# Altium integrated library TI Amplifiers and Linear Special Function Amplifier.IntLib: 708 symbols (part 9 of 47)
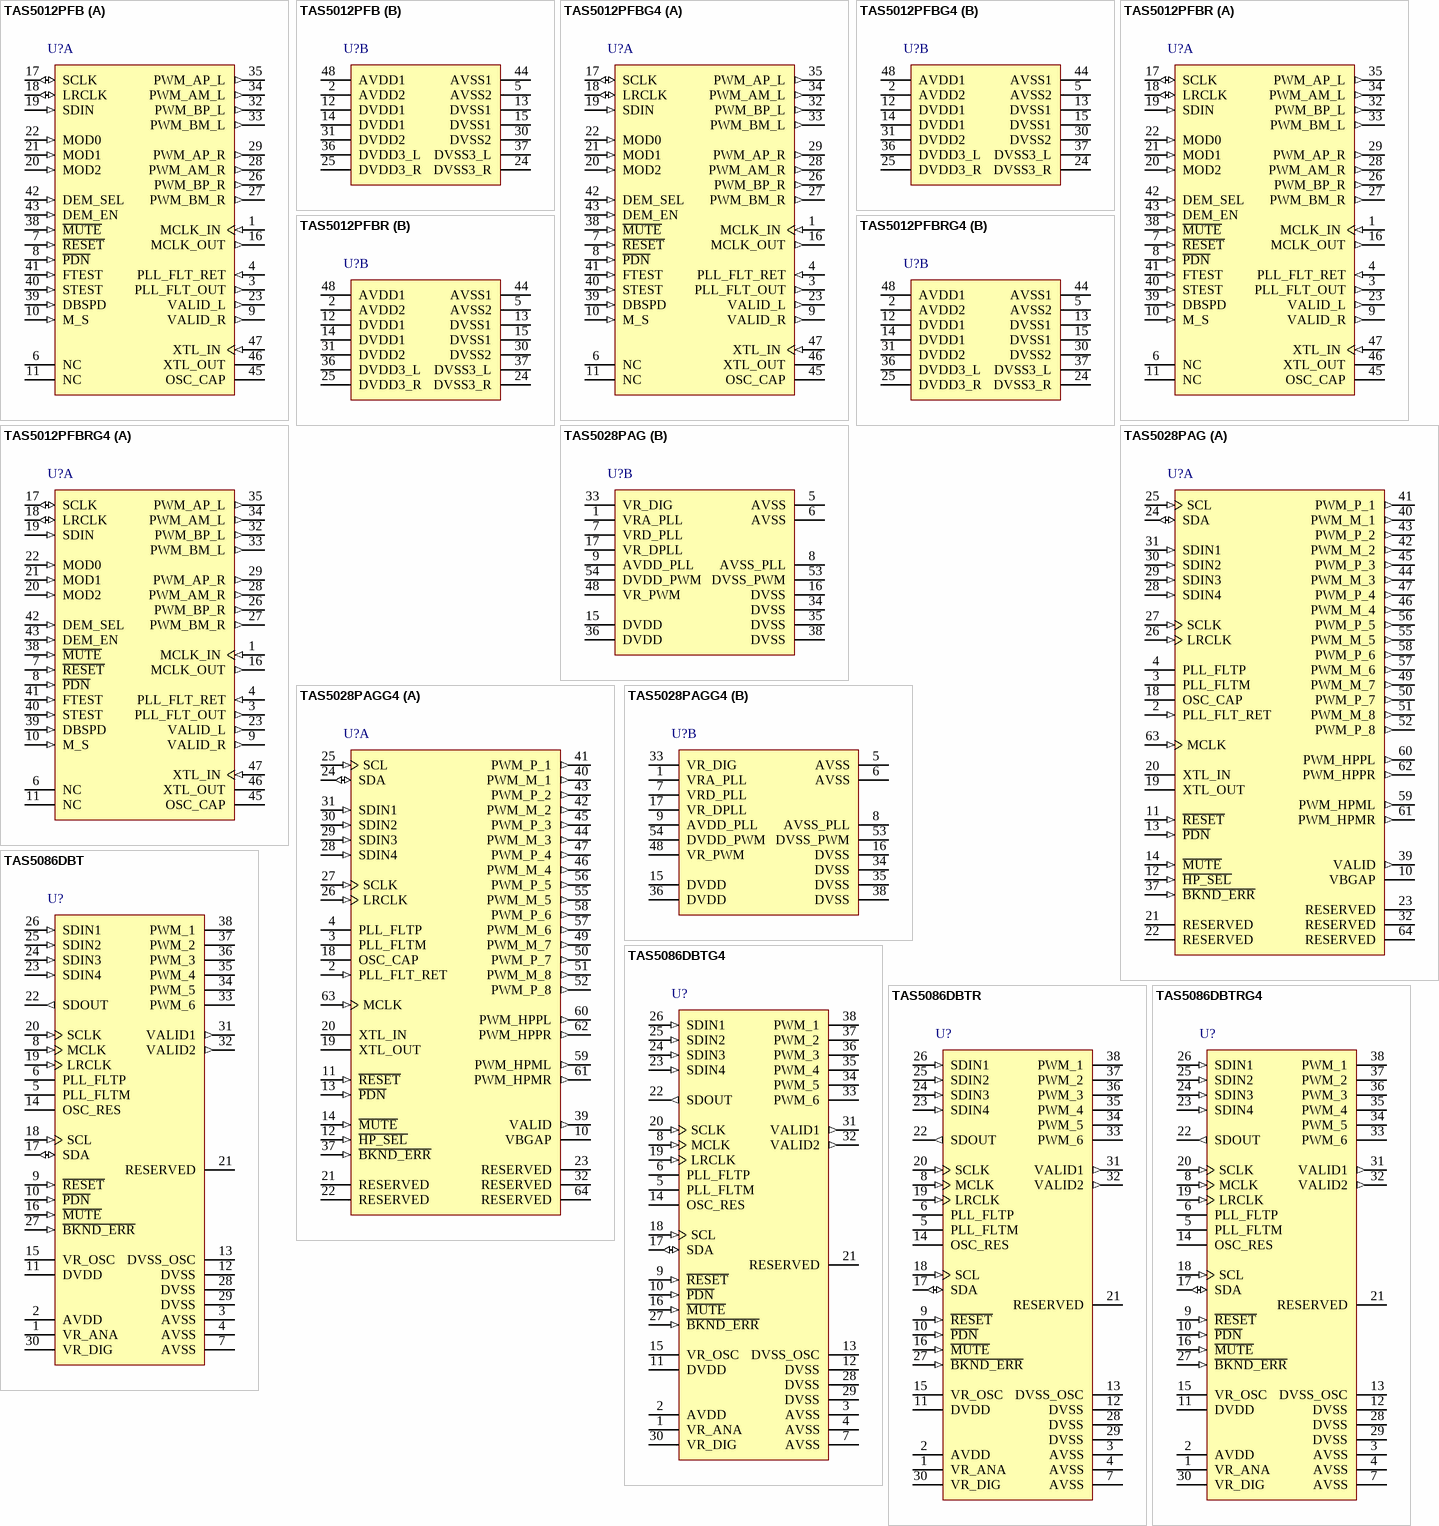
[diagram p47: symbols TAS5012PFB to TAS5086DBTRG4]

## TAS5028PAGG4
designator U?
8 Channel Digital Audio PWM Processor, 0 to 70 degC, 64-pin QFP (PAG64), Green (RoHS & no Sb/Br); Manufacturer: Texas Instruments; PartNumber: TAS5028PAGG4; Audio Output Channels (PWM)(#): 8; Bass/Treble Tone Control: Yes; Data Resolution: 16, 20, 24; Digital Input: TRUE; Digital Supply (up to 5 V)(Max)(V): 3.6; Digital Supply (up to 5 V)(Min)(V): 3; Dynamic Range(dB): 102; Fs(Max)(kHz): 192; Fs(Min)(kHz): 32; Input / Output Channel Mux: Yes / Yes; Serial Interface: I2S, R, L; DatasheetVersion: SLES112; PackageVersion: 4040282/C, 11/1996; PackageReference: PAG64; PackageDescription: 64-Pin Plastic Flat Pack, Body 10 x 10 mm, Pitch 0.50 mm; Supplier 1: Digi-Key; Supplier Part Number 1: TAS5028PAGG4-ND; Supplier 2: Mouser; Supplier Part Number 2: 595-TAS5028PAGG4; Eco-Plan: Green (RoHS & no Sb/Br); Loudness Compensation: No; Mute: Yes; Output: PWM; PurePath: TRUE; SubFamily: PWM Processor; Volume Control: Yes; Mounting Technology: Surface Mount; Code_JEDEC: MS-026; ComponentLink1Description: Manufacturer URL; ComponentLink1URL: http://www.ti.com/; ComponentLink2Description: Datasheet; ComponentLink2URL: http://www.ti.com/general/docs/lit/getliterature.tsp?genericPartNumber=TAS5028&fileType=pdf; ComponentLink3Description: Package Specification; ComponentLink3URL: http://www.ti.com/lit/ml/mtqf006a/mtqf006a.pdf
footprint TI-PAG64_N (QFP, 64-Leads, Body 10x10mm, Pitch 0.5mm, IPC Medium Density)
footprint TI-PAG64_L (QFP, 64-Leads, Body 10x10mm, Pitch 0.5mm, IPC High Density)
footprint TI-PAG64_M (QFP, 64-Leads, Body 10x10mm, Pitch 0.5mm, IPC Low Density)
part A pins: 2 PLL_FLT_RET (in) "PLL external filter return", 3 PLL_FLTM "PLL negative input. Connected to PLL_FLT_RTN via an RC network", 4 PLL_FLTP "PLL positive input. Connected to PLL_FLT_RTN via an RC network", 10 VBGAP (power) "Band gap voltage reference. A pin-out of the internally regulated 1.2-V reference. Typically has a 1-nF low ESR capacitor between VBGAP and AVSS_PLL. This terminal must not be used to power external devices.", 11 ~{RESET} (in) "System reset input, active low. A system reset is generated by applying a logic low to this terminal. R\E\S\E\T\ is an asynchronous control signal that restores the TAS5028 to its default conditions, sets the valid output (See Datasheet)", 12 ~{HP_SEL} (in) "Headphone in/out selector. When a logic low is applied, the headphone is selected(speakers are off). When a logic high is applied, speakers are selected -headphone is off.", 13 ~{PDN} (in) "Power down, active low. PDN powers down all logic and stops all clocks whenever a logic low is applied. The internal parameters are preserved through a power down cycle, as long as a RESET is not active. The duration for (See Datasheet)", 14 ~{MUTE} (in) "Soft mute of outputs, active low (Muted signal = a logic low, normal operation = a logic high) The mute control provides a noiseless volume ramp to silence. Releasing mute provides a noiseless ramp to previous volume.", 18 OSC_CAP "Oscillator capacitor", 19 XTL_OUT "XTL_OUT and XTL_IN are the only LVCMOS terminals on the device. They provide a reference clock for the TAS5028 via use of an external fundamental mode crystal. XTL_OUT is the 1.8-V output drive to the crystal. See Note 4 for (See Datasheet)", 20 XTL_IN "XTL_OUT and XTL_IN are the only LVCMOS terminals on the device. They provide a reference clock for the TAS5028 via use of an external fundamental mode crystal. XTL_IN is the 1.8-V input port for the oscillator circuit. See (See Datasheet)", 21 RESERVED (power) "Connect to digital ground", 22 RESERVED (power) "Connect to digital ground", 23 RESERVED (power) "Connect to digital ground", 24 SDA (io) "I2C serial control data interface input / output", 25 SCL (in) "I2C serial control clock input output", 26 LRCLK (in) "Serial audio data left / right clock (sampling rate clock)", 27 SCLK (in) "Serial audio data clock (shift clock) SCLKIN is the serial audio port (SAP) input data bit clock that is supplied to the serial bit clock to other I2S bus.", 28 SDIN4 (in) "Serial audio data 4 input is one of the serial data input ports. SDIN4 supports four discrete (stereo) data formats and is capable of inputting data at 64 Fs.", 29 SDIN3 (in) "Serial audio data 3 input is one of the serial data input ports. SDIN3 supports four discrete (stereo) data formats and is capable of inputting data at 64 Fs.", 30 SDIN2 (in) "Serial audio data 2 input is one of the serial data input ports. SDIN2 supports four discrete (stereo) data formats and is capable of inputting data at 64 Fs.", 31 SDIN1 (in) "Serial audio data 1 input is one of the serial data input ports. SDIN1 supports four discrete (stereo) data formats and is capable of inputting data at 64 Fs.", 32 RESERVED (power), 37 ~{BKND_ERR} (in) "Active low. A backend error sequence is generated by applying logic low to this terminal. The B\K\N\D\_\E\R\R\ results in all system parameters unaffected, while all H-bridge drive signals going to a hard mute (M) state.", 39 VALID (out) "Output indicating validity of PWM outputs active high", 40 PWM_M_1 (out) "PWM 1 output (differential - )", 41 PWM_P_1 (out) "PWM 1 output (differential +)", 42 PWM_M_2 (out) "PWM 2 output (differential - )", 43 PWM_P_2 (out) "PWM 2 output (differential +)", 44 PWM_M_3 (out) "PWM 3 output (differential - )", 45 PWM_P_3 (out) "PWM 3 output (differential +)", 46 PWM_M_4 (out) "PWM 4 output (differential - )", 47 PWM_P_4 (out) "PWM 4 output (differential +)", 49 PWM_M_7 (out) "PWM 7 (Line out L) output (differential - )", 50 PWM_P_7 (out) "PWM 7 (Line out L) output (differential +)", 51 PWM_M_8 (out) "PWM 8 (Line out R) output (differential - )", 52 PWM_P_8 (out) "PWM 8 (Line out R) output (differential +)", 55 PWM_M_5 (out) "PWM 5 output (differential - )", 56 PWM_P_5 (out) "PWM 5 output (differential +)", 57 PWM_M_6 (out) "PWM 6 output (differential - )", 58 PWM_P_6 (out) "PWM 6 output (differential +)", 59 PWM_HPML (out) "PWM left channel headphone (differential - )", 60 PWM_HPPL (out) "PWM left channel headphone (differential +)", 61 PWM_HPMR (out) "PWM right channel headphone (differential - )", 62 PWM_HPPR (out) "PWM right channel headphone (differential +)", 63 MCLK (in) "MCLK is a 3.3-V clock master clock input. The input frequency of this clock can range from 4 MHz to 50 MHz.", 64 RESERVED (power) "Connect to digital ground"
part B pins: 1 VRA_PLL (power) "Voltage reference for PLL analog supply 1.8 V. A pin-out of the internally regulated 1.8-V power used by PLL logic. A 0.1-uF low ESR capacitor should be connected between this terminal and AVSS_PLL. This terminal must not be (See Datasheet)", 5 AVSS (power) "Analog ground", 6 AVSS (power) "Analog ground", 7 VRD_PLL (power) "Voltage reference for PLL digital supply 1.8 V. A pin-out of the internally regulated 1.8-V power used by PLL logic. A 0.1-uF low ESR capacitor should be connected between this terminal and AVSS_PLL. This terminal must not (See Datasheet)", 8 AVSS_PLL (power) "Analog ground for PLL. This terminal should reference the same ground as power terminal DVSS, but to achieve low PLL jitter; ground noise at this terminal must be minimized. The availability of the AVSS terminal allows a (See Datasheet)", 9 AVDD_PLL (power) "3.3-V analog power supply for PLL This terminal can be connected to the same power source used to drive power terminal DVSS, but to achieve low PLL jitter, this terminal should be bypassed to AVSS_PLL with a 0.1-uF low-ESR (See Datasheet)", 15 DVDD (power) "Digital power 3.3-V supply for digital core and most of I/O buffers", 16 DVSS (power) "Digital ground for digital core and most of I/O buffers", 17 VR_DPLL (power) "Voltage reference for digital PLL supply 1.8 V. A pin-out of the internally regulated 1.8-V power used by digital PLL logic. A 0.1-uF low ESR capacitor should be connected between this terminal and DVSS_CORE. This terminal (See Datasheet)", 33 VR_DIG (power) "Voltage reference for digital core supply 1.8 V. A pin-out of the internally regulated 1.8-V power used by digital core logic. A 0.47-uF low ESR capacitor should be connected between this terminal and DVSS. This terminal (See Datasheet)", 34 DVSS (power) "Digital ground", 35 DVSS (power) "Digital ground", 36 DVDD (power) "3.3-V digital power supply", 38 DVSS (power) "Digital ground", 48 VR_PWM (power) "Voltage reference for digital PWM core supply 1.8 V. A pin-out of the internally regulated 1.8-V power used by digital PWM core logic. A 0.1-uF low ESR capacitor should be connected between this terminal and DVSS_PWM. This (See Datasheet)", 53 DVSS_PWM (power) "Digital ground for PWM", 54 DVDD_PWM (power) "3.3-V digital power supply for PWM"

## TAS5086DBT
designator U?
6 Channel Digital Audio PWM Processor, 0 to 70 degC, 38-pin SOP (DBT38), Green (RoHS & no Sb/Br); Manufacturer: Texas Instruments; PartNumber: TAS5086DBT; Audio Output Channels (PWM)(#): 6; Data Resolution: 16, 20, 24; Digital Input: TRUE; Digital Supply (up to 5 V)(Max)(V): 3.6; Digital Supply (up to 5 V)(Min)(V): 3; Dynamic Range(dB): 105; Fs(Max)(kHz): 192; Fs(Min)(kHz): 32; Input / Output Channel Mux: Yes / Yes; Mute: Yes; Output: PWM, I2S; Serial Interface: I2S, R, L; DatasheetVersion: SLES131C; PackageVersion: 4073252-6/I, 03/2011; PackageReference: DBT38; PackageDescription: 38-Pin Plastic Small Outline, Body 9.7 x 4.4 mm, Pitch 0.5 mm; Supplier 1: Digi-Key; Supplier Part Number 1: 296-17808-5-ND; Supplier 2: Digi-Key; Supplier Part Number 2: 296-17808-2-ND; Supplier 3: Newark; Supplier Part Number 3: 24K4909; Supplier 4: Mouser; Supplier Part Number 4: 595-TAS5086DBT; Eco-Plan: Green (RoHS & no Sb/Br); Loudness Compensation: No; PurePath: TRUE; SubFamily: PWM Processor; Volume Control: Yes; Mounting Technology: Surface Mount; Code_JEDEC: MO-153; ComponentLink1Description: Manufacturer URL; ComponentLink1URL: http://www.ti.com/; ComponentLink2Description: Datasheet; ComponentLink2URL: http://www.ti.com/general/docs/lit/getliterature.tsp?genericPartNumber=TAS5086&fileType=pdf; ComponentLink3Description: Package Specification; ComponentLink3URL: http://www.ti.com/litv/pdf/mpds368
footprint TI-DBT38_N (SOP, 38-Leads, Body 9.7x4.4mm, Pitch 0.5mm, IPC Medium Density)
footprint TI-DBT38_L (SOP, 38-Leads, Body 9.7x4.4mm, Pitch 0.5mm, IPC High Density)
footprint TI-DBT38_M (SOP, 38-Leads, Body 9.7x4.4mm, Pitch 0.5mm, IPC Low Density)
pins: 1 VR_ANA (power) "Voltage reference for analog supply, 1.8 V. A pinout of the internally regulated 1.8-V power. A 0.1-uF, low-ESR capacitor should be connected between this terminal and AVSS_PLL. This terminal must not be used to power (See Datasheet)", 2 AVDD (power) "3.3-V analog power supply", 3 AVSS (power) "Analog supply ground", 4 AVSS (power) "Analog supply ground", 5 PLL_FLTM "PLL negative input", 6 PLL_FLTP "PLL positive input", 7 AVSS (power) "Analog supply ground", 8 MCLK (in) "MCLK is a 3.3-V clock master clock input. The input frequency of this clock can range from 4 MHz to 50 MHz.", 9 ~{RESET} (in) "A system reset is generated by applying a logic low to this terminal.R\E\S\E\T\ is an asynchronous control signal that restores the TAS5086 to its default conditions, sets the VALID2 output low, and places the PWM in the (See Datasheet)", 10 ~{PDN} (in) "Power down, active-low. P\D\N\ powers down all logic, stops all clocks, and performs a soft stop whenever a logic low is applied. The internal parameters are preserved through a power-down cycle, as long as R\E\S\E\T\ is not (See Datasheet)", 11 DVDD (power) "3.3-V digital power supply", 12 DVSS (power) "Digital ground", 13 DVSS_OSC (power) "Digital ground for oscillator", 14 OSC_RES "Oscillator trim resistor", 15 VR_OSC (power) "Voltage reference for analog supply, 1.8 V. A pinout of the internally regulated 1.8-V power. A 0.1-uF, low-ESR(3)capacitor should be connected between this terminal and AVSS_PLL. This terminal must not be used to power (See Datasheet)", 16 ~{MUTE} (in) "Performs a soft mute of outputs, active-low (muted signal = a logic low,normal operation = a logic high). The mute control provides a noiseless volume ramp to silence. Releasing mute provides a noiseless ramp to previous (See Datasheet)", 17 SDA (io) "I2C serial control data interface input/output", 18 SCL (in) "I2C serial control clock input", 19 LRCLK (in) "Input serial audio data left/right clock (sampling rate clock)", 20 SCLK (in) "Serial audio data clock (shift clock). SCLKIN is the serial audio port (SAP) input data bit clock.", 21 RESERVED (power) "RESERVED (connect to ground)", 22 SDOUT (out) "Serial audio data 1 output is the only serial data output port. SDOUT supports I2S format only.", 23 SDIN4 (in) "Serial audio data 4 input is one of the serial data input ports. SDIN4 supports four discrete (stereo) data formats.", 24 SDIN3 (in) "Serial audio data 3 input is one of the serial data input ports. SDIN3 supports four discrete (stereo) data formats.", 25 SDIN2 (in) "Serial audio data 2 input is one of the serial data input ports. SDIN2 supports four discrete (stereo) data formats.", 26 SDIN1 (in) "Serial audio data 1 input is one of the serial data input ports. SDIN1 supports four discrete (stereo) data formats.", 27 ~{BKND_ERR} (in) "Active-low. A back-end error sequence is generated by applying logic LOW to this terminal. B\K\N\D\_\E\R\R\ results in no change to any system parameters while VALID2 goes low.", 28 DVSS (power) "Digital ground", 29 DVSS (power) "Digital ground", 30 VR_DIG (power) "Voltage reference for digital PWM core supply, 1.8 V. A pinout of the internally regulated 1.8-V power used by digital PWM core logic. A 0.1-uF,low-ESR(3)capacitor should be connected between this terminal and DVSS_PWM. This (See Datasheet)", 31 VALID1 (out) "Soft start valid. Output indicating validity of soft-start PWM output, active-high", 32 VALID2 (out) "Output indicating validity of PWM outputs, active-high.", 33 PWM_6 (hiz) "PWM 6 output", 34 PWM_5 (hiz) "PWM 5 output", 35 PWM_4 (hiz) "PWM 4 output", 36 PWM_3 (hiz) "PWM 3 output", 37 PWM_2 (hiz) "PWM 2 output", 38 PWM_1 (hiz) "PWM 1 output"

## TAS5086DBTG4
designator U?
6 Channel Digital Audio PWM Processor, 0 to 70 degC, 38-pin SOP (DBT38), Green (RoHS & no Sb/Br); Manufacturer: Texas Instruments; PartNumber: TAS5086DBTG4; Audio Output Channels (PWM)(#): 6; Data Resolution: 16, 20, 24; Digital Input: TRUE; Digital Supply (up to 5 V)(Max)(V): 3.6; Digital Supply (up to 5 V)(Min)(V): 3; Dynamic Range(dB): 105; Fs(Max)(kHz): 192; Fs(Min)(kHz): 32; Input / Output Channel Mux: Yes / Yes; Mute: Yes; Output: PWM, I2S; Serial Interface: I2S, R, L; DatasheetVersion: SLES131C; PackageVersion: 4073252-6/I, 03/2011; PackageReference: DBT38; PackageDescription: 38-Pin Plastic Small Outline, Body 9.7 x 4.4 mm, Pitch 0.5 mm; Supplier 1: Digi-Key; Supplier Part Number 1: TAS5086DBTG4-ND; Supplier 2: Newark; Supplier Part Number 2: 54K0684; Supplier 3: Mouser; Supplier Part Number 3: 595-TAS5086DBTG4; Eco-Plan: Green (RoHS & no Sb/Br); Loudness Compensation: No; PurePath: TRUE; SubFamily: PWM Processor; Volume Control: Yes; Mounting Technology: Surface Mount; Code_JEDEC: MO-153; ComponentLink1Description: Manufacturer URL; ComponentLink1URL: http://www.ti.com/; ComponentLink2Description: Datasheet; ComponentLink2URL: http://www.ti.com/general/docs/lit/getliterature.tsp?genericPartNumber=TAS5086&fileType=pdf; ComponentLink3Description: Package Specification; ComponentLink3URL: http://www.ti.com/litv/pdf/mpds368
footprint TI-DBT38_N (SOP, 38-Leads, Body 9.7x4.4mm, Pitch 0.5mm, IPC Medium Density)
footprint TI-DBT38_L (SOP, 38-Leads, Body 9.7x4.4mm, Pitch 0.5mm, IPC High Density)
footprint TI-DBT38_M (SOP, 38-Leads, Body 9.7x4.4mm, Pitch 0.5mm, IPC Low Density)
pins: 1 VR_ANA (power) "Voltage reference for analog supply, 1.8 V. A pinout of the internally regulated 1.8-V power. A 0.1-uF, low-ESR capacitor should be connected between this terminal and AVSS_PLL. This terminal must not be used to power (See Datasheet)", 2 AVDD (power) "3.3-V analog power supply", 3 AVSS (power) "Analog supply ground", 4 AVSS (power) "Analog supply ground", 5 PLL_FLTM "PLL negative input", 6 PLL_FLTP "PLL positive input", 7 AVSS (power) "Analog supply ground", 8 MCLK (in) "MCLK is a 3.3-V clock master clock input. The input frequency of this clock can range from 4 MHz to 50 MHz.", 9 ~{RESET} (in) "A system reset is generated by applying a logic low to this terminal.R\E\S\E\T\ is an asynchronous control signal that restores the TAS5086 to its default conditions, sets the VALID2 output low, and places the PWM in the (See Datasheet)", 10 ~{PDN} (in) "Power down, active-low. P\D\N\ powers down all logic, stops all clocks, and performs a soft stop whenever a logic low is applied. The internal parameters are preserved through a power-down cycle, as long as R\E\S\E\T\ is not (See Datasheet)", 11 DVDD (power) "3.3-V digital power supply", 12 DVSS (power) "Digital ground", 13 DVSS_OSC (power) "Digital ground for oscillator", 14 OSC_RES "Oscillator trim resistor", 15 VR_OSC (power) "Voltage reference for analog supply, 1.8 V. A pinout of the internally regulated 1.8-V power. A 0.1-uF, low-ESR(3)capacitor should be connected between this terminal and AVSS_PLL. This terminal must not be used to power (See Datasheet)", 16 ~{MUTE} (in) "Performs a soft mute of outputs, active-low (muted signal = a logic low,normal operation = a logic high). The mute control provides a noiseless volume ramp to silence. Releasing mute provides a noiseless ramp to previous (See Datasheet)", 17 SDA (io) "I2C serial control data interface input/output", 18 SCL (in) "I2C serial control clock input", 19 LRCLK (in) "Input serial audio data left/right clock (sampling rate clock)", 20 SCLK (in) "Serial audio data clock (shift clock). SCLKIN is the serial audio port (SAP) input data bit clock.", 21 RESERVED (power) "RESERVED (connect to ground)", 22 SDOUT (out) "Serial audio data 1 output is the only serial data output port. SDOUT supports I2S format only.", 23 SDIN4 (in) "Serial audio data 4 input is one of the serial data input ports. SDIN4 supports four discrete (stereo) data formats.", 24 SDIN3 (in) "Serial audio data 3 input is one of the serial data input ports. SDIN3 supports four discrete (stereo) data formats.", 25 SDIN2 (in) "Serial audio data 2 input is one of the serial data input ports. SDIN2 supports four discrete (stereo) data formats.", 26 SDIN1 (in) "Serial audio data 1 input is one of the serial data input ports. SDIN1 supports four discrete (stereo) data formats.", 27 ~{BKND_ERR} (in) "Active-low. A back-end error sequence is generated by applying logic LOW to this terminal. B\K\N\D\_\E\R\R\ results in no change to any system parameters while VALID2 goes low.", 28 DVSS (power) "Digital ground", 29 DVSS (power) "Digital ground", 30 VR_DIG (power) "Voltage reference for digital PWM core supply, 1.8 V. A pinout of the internally regulated 1.8-V power used by digital PWM core logic. A 0.1-uF,low-ESR(3)capacitor should be connected between this terminal and DVSS_PWM. This (See Datasheet)", 31 VALID1 (out) "Soft start valid. Output indicating validity of soft-start PWM output, active-high", 32 VALID2 (out) "Output indicating validity of PWM outputs, active-high.", 33 PWM_6 (hiz) "PWM 6 output", 34 PWM_5 (hiz) "PWM 5 output", 35 PWM_4 (hiz) "PWM 4 output", 36 PWM_3 (hiz) "PWM 3 output", 37 PWM_2 (hiz) "PWM 2 output", 38 PWM_1 (hiz) "PWM 1 output"

## TAS5086DBTR
designator U?
6 Channel Digital Audio PWM Processor, 0 to 70 degC, 38-pin SOP (DBT38), Green (RoHS & no Sb/Br); Manufacturer: Texas Instruments; PartNumber: TAS5086DBTR; Audio Output Channels (PWM)(#): 6; Data Resolution: 16, 20, 24; Digital Input: TRUE; Digital Supply (up to 5 V)(Max)(V): 3.6; Digital Supply (up to 5 V)(Min)(V): 3; Dynamic Range(dB): 105; Fs(Max)(kHz): 192; Fs(Min)(kHz): 32; Input / Output Channel Mux: Yes / Yes; Mute: Yes; Output: PWM, I2S; Serial Interface: I2S, R, L; DatasheetVersion: SLES131C; PackageVersion: 4073252-6/I, 03/2011; PackageReference: DBT38; PackageDescription: 38-Pin Plastic Small Outline, Body 9.7 x 4.4 mm, Pitch 0.5 mm; Supplier 1: Digi-Key; Supplier Part Number 1: 296-26678-2-ND; Supplier 2: Digi-Key; Supplier Part Number 2: 296-26678-1-ND; Supplier 3: Digi-Key; Supplier Part Number 3: 296-26678-6-ND; Supplier 4: Newark; Supplier Part Number 4: 24K4910; Supplier 5: Mouser; Supplier Part Number 5: 595-TAS5086DBTR; Eco-Plan: Green (RoHS & no Sb/Br); Loudness Compensation: No; PurePath: TRUE; SubFamily: PWM Processor; Volume Control: Yes; Mounting Technology: Surface Mount; Code_JEDEC: MO-153; ComponentLink1Description: Manufacturer URL; ComponentLink1URL: http://www.ti.com/; ComponentLink2Description: Datasheet; ComponentLink2URL: http://www.ti.com/general/docs/lit/getliterature.tsp?genericPartNumber=TAS5086&fileType=pdf; ComponentLink3Description: Package Specification; ComponentLink3URL: http://www.ti.com/litv/pdf/mpds368
footprint TI-DBT38_N (SOP, 38-Leads, Body 9.7x4.4mm, Pitch 0.5mm, IPC Medium Density)
footprint TI-DBT38_L (SOP, 38-Leads, Body 9.7x4.4mm, Pitch 0.5mm, IPC High Density)
footprint TI-DBT38_M (SOP, 38-Leads, Body 9.7x4.4mm, Pitch 0.5mm, IPC Low Density)
pins: 1 VR_ANA (power) "Voltage reference for analog supply, 1.8 V. A pinout of the internally regulated 1.8-V power. A 0.1-uF, low-ESR capacitor should be connected between this terminal and AVSS_PLL. This terminal must not be used to power (See Datasheet)", 2 AVDD (power) "3.3-V analog power supply", 3 AVSS (power) "Analog supply ground", 4 AVSS (power) "Analog supply ground", 5 PLL_FLTM "PLL negative input", 6 PLL_FLTP "PLL positive input", 7 AVSS (power) "Analog supply ground", 8 MCLK (in) "MCLK is a 3.3-V clock master clock input. The input frequency of this clock can range from 4 MHz to 50 MHz.", 9 ~{RESET} (in) "A system reset is generated by applying a logic low to this terminal.R\E\S\E\T\ is an asynchronous control signal that restores the TAS5086 to its default conditions, sets the VALID2 output low, and places the PWM in the (See Datasheet)", 10 ~{PDN} (in) "Power down, active-low. P\D\N\ powers down all logic, stops all clocks, and performs a soft stop whenever a logic low is applied. The internal parameters are preserved through a power-down cycle, as long as R\E\S\E\T\ is not (See Datasheet)", 11 DVDD (power) "3.3-V digital power supply", 12 DVSS (power) "Digital ground", 13 DVSS_OSC (power) "Digital ground for oscillator", 14 OSC_RES "Oscillator trim resistor", 15 VR_OSC (power) "Voltage reference for analog supply, 1.8 V. A pinout of the internally regulated 1.8-V power. A 0.1-uF, low-ESR(3)capacitor should be connected between this terminal and AVSS_PLL. This terminal must not be used to power (See Datasheet)", 16 ~{MUTE} (in) "Performs a soft mute of outputs, active-low (muted signal = a logic low,normal operation = a logic high). The mute control provides a noiseless volume ramp to silence. Releasing mute provides a noiseless ramp to previous (See Datasheet)", 17 SDA (io) "I2C serial control data interface input/output", 18 SCL (in) "I2C serial control clock input", 19 LRCLK (in) "Input serial audio data left/right clock (sampling rate clock)", 20 SCLK (in) "Serial audio data clock (shift clock). SCLKIN is the serial audio port (SAP) input data bit clock.", 21 RESERVED (power) "RESERVED (connect to ground)", 22 SDOUT (out) "Serial audio data 1 output is the only serial data output port. SDOUT supports I2S format only.", 23 SDIN4 (in) "Serial audio data 4 input is one of the serial data input ports. SDIN4 supports four discrete (stereo) data formats.", 24 SDIN3 (in) "Serial audio data 3 input is one of the serial data input ports. SDIN3 supports four discrete (stereo) data formats.", 25 SDIN2 (in) "Serial audio data 2 input is one of the serial data input ports. SDIN2 supports four discrete (stereo) data formats.", 26 SDIN1 (in) "Serial audio data 1 input is one of the serial data input ports. SDIN1 supports four discrete (stereo) data formats.", 27 ~{BKND_ERR} (in) "Active-low. A back-end error sequence is generated by applying logic LOW to this terminal. B\K\N\D\_\E\R\R\ results in no change to any system parameters while VALID2 goes low.", 28 DVSS (power) "Digital ground", 29 DVSS (power) "Digital ground", 30 VR_DIG (power) "Voltage reference for digital PWM core supply, 1.8 V. A pinout of the internally regulated 1.8-V power used by digital PWM core logic. A 0.1-uF,low-ESR(3)capacitor should be connected between this terminal and DVSS_PWM. This (See Datasheet)", 31 VALID1 (out) "Soft start valid. Output indicating validity of soft-start PWM output, active-high", 32 VALID2 (out) "Output indicating validity of PWM outputs, active-high.", 33 PWM_6 (hiz) "PWM 6 output", 34 PWM_5 (hiz) "PWM 5 output", 35 PWM_4 (hiz) "PWM 4 output", 36 PWM_3 (hiz) "PWM 3 output", 37 PWM_2 (hiz) "PWM 2 output", 38 PWM_1 (hiz) "PWM 1 output"

## TAS5086DBTRG4
designator U?
6 Channel Digital Audio PWM Processor, 0 to 70 degC, 38-pin SOP (DBT38), Green (RoHS & no Sb/Br); Manufacturer: Texas Instruments; PartNumber: TAS5086DBTRG4; Audio Output Channels (PWM)(#): 6; Data Resolution: 16, 20, 24; Digital Input: TRUE; Digital Supply (up to 5 V)(Max)(V): 3.6; Digital Supply (up to 5 V)(Min)(V): 3; Dynamic Range(dB): 105; Fs(Max)(kHz): 192; Fs(Min)(kHz): 32; Input / Output Channel Mux: Yes / Yes; Mute: Yes; Output: PWM, I2S; Serial Interface: I2S, R, L; DatasheetVersion: SLES131C; PackageVersion: 4073252-6/I, 03/2011; PackageReference: DBT38; PackageDescription: 38-Pin Plastic Small Outline, Body 9.7 x 4.4 mm, Pitch 0.5 mm; Supplier 1: Digi-Key; Supplier Part Number 1: TAS5086DBTRG4-ND; Supplier 2: Newark; Supplier Part Number 2: 33K6856; Supplier 3: Mouser; Supplier Part Number 3: 595-TAS5086DBTRG4; Eco-Plan: Green (RoHS & no Sb/Br); Loudness Compensation: No; PurePath: TRUE; SubFamily: PWM Processor; Volume Control: Yes; Mounting Technology: Surface Mount; Code_JEDEC: MO-153; ComponentLink1Description: Manufacturer URL; ComponentLink1URL: http://www.ti.com/; ComponentLink2Description: Datasheet; ComponentLink2URL: http://www.ti.com/general/docs/lit/getliterature.tsp?genericPartNumber=TAS5086&fileType=pdf; ComponentLink3Description: Package Specification; ComponentLink3URL: http://www.ti.com/litv/pdf/mpds368
footprint TI-DBT38_N (SOP, 38-Leads, Body 9.7x4.4mm, Pitch 0.5mm, IPC Medium Density)
footprint TI-DBT38_L (SOP, 38-Leads, Body 9.7x4.4mm, Pitch 0.5mm, IPC High Density)
footprint TI-DBT38_M (SOP, 38-Leads, Body 9.7x4.4mm, Pitch 0.5mm, IPC Low Density)
pins: 1 VR_ANA (power) "Voltage reference for analog supply, 1.8 V. A pinout of the internally regulated 1.8-V power. A 0.1-uF, low-ESR capacitor should be connected between this terminal and AVSS_PLL. This terminal must not be used to power (See Datasheet)", 2 AVDD (power) "3.3-V analog power supply", 3 AVSS (power) "Analog supply ground", 4 AVSS (power) "Analog supply ground", 5 PLL_FLTM "PLL negative input", 6 PLL_FLTP "PLL positive input", 7 AVSS (power) "Analog supply ground", 8 MCLK (in) "MCLK is a 3.3-V clock master clock input. The input frequency of this clock can range from 4 MHz to 50 MHz.", 9 ~{RESET} (in) "A system reset is generated by applying a logic low to this terminal.R\E\S\E\T\ is an asynchronous control signal that restores the TAS5086 to its default conditions, sets the VALID2 output low, and places the PWM in the (See Datasheet)", 10 ~{PDN} (in) "Power down, active-low. P\D\N\ powers down all logic, stops all clocks, and performs a soft stop whenever a logic low is applied. The internal parameters are preserved through a power-down cycle, as long as R\E\S\E\T\ is not (See Datasheet)", 11 DVDD (power) "3.3-V digital power supply", 12 DVSS (power) "Digital ground", 13 DVSS_OSC (power) "Digital ground for oscillator", 14 OSC_RES "Oscillator trim resistor", 15 VR_OSC (power) "Voltage reference for analog supply, 1.8 V. A pinout of the internally regulated 1.8-V power. A 0.1-uF, low-ESR(3)capacitor should be connected between this terminal and AVSS_PLL. This terminal must not be used to power (See Datasheet)", 16 ~{MUTE} (in) "Performs a soft mute of outputs, active-low (muted signal = a logic low,normal operation = a logic high). The mute control provides a noiseless volume ramp to silence. Releasing mute provides a noiseless ramp to previous (See Datasheet)", 17 SDA (io) "I2C serial control data interface input/output", 18 SCL (in) "I2C serial control clock input", 19 LRCLK (in) "Input serial audio data left/right clock (sampling rate clock)", 20 SCLK (in) "Serial audio data clock (shift clock). SCLKIN is the serial audio port (SAP) input data bit clock.", 21 RESERVED (power) "RESERVED (connect to ground)", 22 SDOUT (out) "Serial audio data 1 output is the only serial data output port. SDOUT supports I2S format only.", 23 SDIN4 (in) "Serial audio data 4 input is one of the serial data input ports. SDIN4 supports four discrete (stereo) data formats.", 24 SDIN3 (in) "Serial audio data 3 input is one of the serial data input ports. SDIN3 supports four discrete (stereo) data formats.", 25 SDIN2 (in) "Serial audio data 2 input is one of the serial data input ports. SDIN2 supports four discrete (stereo) data formats.", 26 SDIN1 (in) "Serial audio data 1 input is one of the serial data input ports. SDIN1 supports four discrete (stereo) data formats.", 27 ~{BKND_ERR} (in) "Active-low. A back-end error sequence is generated by applying logic LOW to this terminal. B\K\N\D\_\E\R\R\ results in no change to any system parameters while VALID2 goes low.", 28 DVSS (power) "Digital ground", 29 DVSS (power) "Digital ground", 30 VR_DIG (power) "Voltage reference for digital PWM core supply, 1.8 V. A pinout of the internally regulated 1.8-V power used by digital PWM core logic. A 0.1-uF,low-ESR(3)capacitor should be connected between this terminal and DVSS_PWM. This (See Datasheet)", 31 VALID1 (out) "Soft start valid. Output indicating validity of soft-start PWM output, active-high", 32 VALID2 (out) "Output indicating validity of PWM outputs, active-high.", 33 PWM_6 (hiz) "PWM 6 output", 34 PWM_5 (hiz) "PWM 5 output", 35 PWM_4 (hiz) "PWM 4 output", 36 PWM_3 (hiz) "PWM 3 output", 37 PWM_2 (hiz) "PWM 2 output", 38 PWM_1 (hiz) "PWM 1 output"

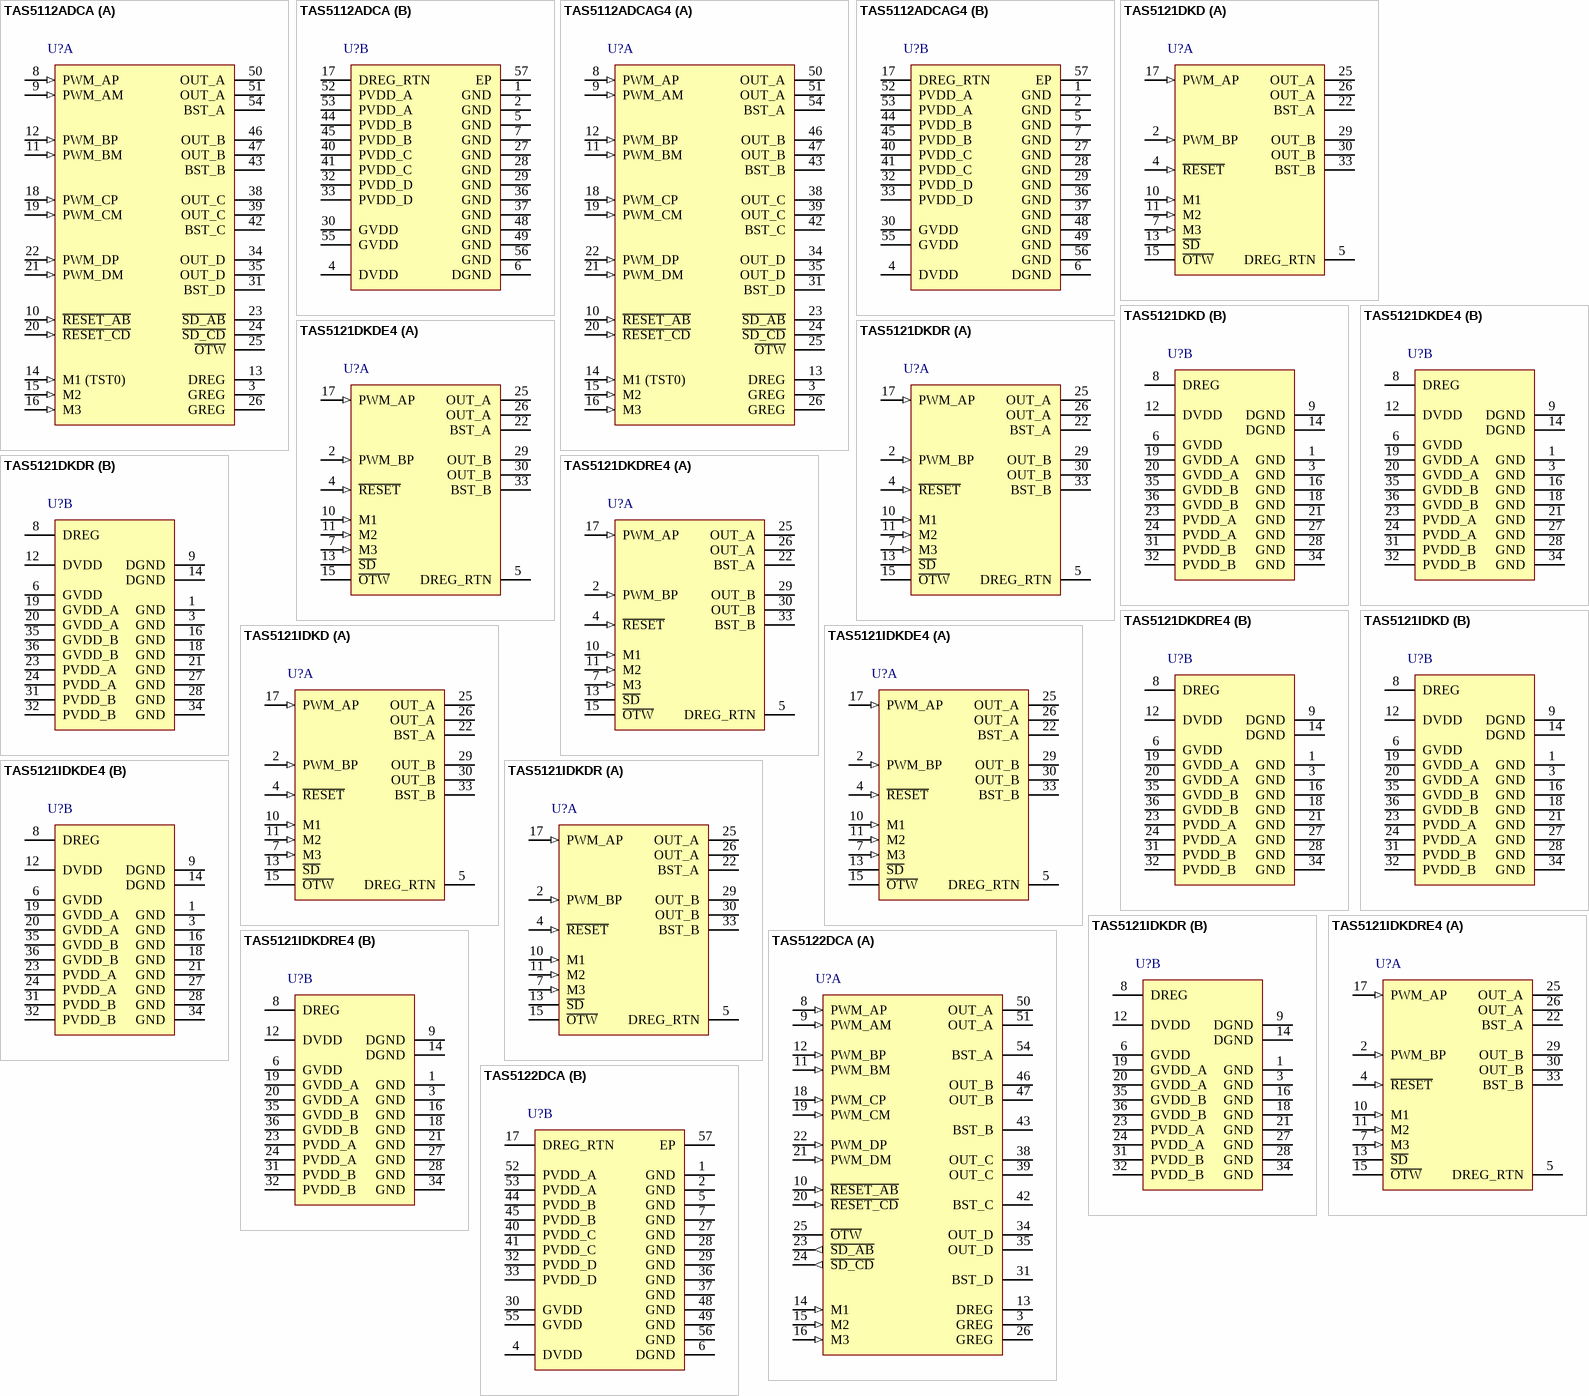
[diagram p8: symbols TAS5112ADCA to TAS5122DCA]

## TAS5112ADCA
designator U?
50 W Stereo Digital Amplifier Power Stage, 0 to 70 degC, 56-pin SOP (DCA56), Green (RoHS & no Sb/Br); Manufacturer: Texas Instruments; PartNumber: TAS5112ADCA; Analog Supply Max [V]: 30.5; Analog Supply Min [V]: 16; Digital Supply Min [V]: 3; Input Type: PWM; Max. Number of Speaker Outputs: 2; SubFamily: Mid/High-Power Amplifier; DatasheetVersion: SLES094B; PackageVersion: 4073259-3/E, 07/2011; PackageReference: DCA56-7700X3425TP; PackageDescription: 56-Pin Plastic Small Outline, Body 14 x 6.1 mm, Pitch 0.5 mm; Supplier 1: Digi-Key; Supplier Part Number 1: 296-17673-5-ND; Supplier 2: Farnell; Supplier Part Number 2: 1534651; Supplier 3: Newark; Supplier Part Number 3: 73J8317; Supplier 4: Mouser; Supplier Part Number 4: 595-TAS5112ADCA; Eco-Plan: Green (RoHS & no Sb/Br); Mounting Technology: Surface Mount; Code_JEDEC: MO-153; ComponentLink1Description: Manufacturer URL; ComponentLink1URL: http://www.ti.com/; ComponentLink2Description: Datasheet; ComponentLink2URL: http://www.ti.com/general/docs/lit/getliterature.tsp?genericPartNumber=TAS5112A&fileType=pdf; ComponentLink3Description: Package Specification; ComponentLink3URL: http://www.ti.com/litv/pdf/mpdi001b
footprint TI-DCA56-7700X3425TP_N (SOP, 56-Leads, Body 14x6.1mm, Pitch 0.5mm, Thermal Pad 8.2x3.9mm, IPC Medium Density)
footprint TI-DCA56-7700X3425TP_L (SOP, 56-Leads, Body 14x6.1mm, Pitch 0.5mm, Thermal Pad 8.2x3.9mm, IPC High Density)
footprint TI-DCA56-7700X3425TP_M (SOP, 56-Leads, Body 14x6.1mm, Pitch 0.5mm, Thermal Pad 8.2x3.9mm, IPC Low Density)
part A pins: 3 GREG "Gate drive voltage regulator decoupling pin, capacitor to REG_GND", 8 PWM_AP (in) "Input signal (positive), half-bridge A", 9 PWM_AM (in) "Input signal (negative), half-bridge A", 10 ~{RESET_AB} (in) "Reset signal, active low", 11 PWM_BM (in) "Input signal (negative), half-bridge B", 12 PWM_BP (in) "Input signal (positive), half-bridge B", 13 DREG "Digital supply voltage regulator decoupling pin, capacitor connected to GND", 14 M1 (TST0) (in) "Mode selection pin", 15 M2 (in) "Mode selection pin", 16 M3 (in) "Mode selection pin", 18 PWM_CP (in) "Input signal (positive), half-bridge C", 19 PWM_CM (in) "Input signal (negative), half-bridge C", 20 ~{RESET_CD} (in) "Reset signal, active low", 21 PWM_DM (in) "Input signal (negative), half-bridge D", 22 PWM_DP (in) "Input signal (positive), half-bridge D", 23 ~{SD_AB} (oc) "Shutdown signal for half-bridges A and B, active-low", 24 ~{SD_CD} (oc) "Shutdown signal for half-bridges C and D, active-low", 25 ~{OTW} (oc) "Overtemperature warning output, open drain with internal pullup resistor", 26 GREG "Gate drive voltage regulator decoupling pin, capacitor to REG_GND", 31 BST_D "HS bootstrap supply (BST), external capacitor to OUT_D required", 34 OUT_D (hiz) "Output, half-bridge D", 35 OUT_D (hiz) "Output, half-bridge D", 38 OUT_C (hiz) "Output, half-bridge C", 39 OUT_C (hiz) "Output, half-bridge C", 42 BST_C "HS bootstrap supply (BST), external capacitor to OUT_C required", 43 BST_B "High-side bootstrap supply (BST), external capacitor to OUT_B required", 46 OUT_B (hiz) "Output, half-bridge B", 47 OUT_B (hiz) "Output, half-bridge B", 50 OUT_A (hiz) "Output, half-bridge A", 51 OUT_A (hiz) "Output, half-bridge A", 54 BST_A "High-side bootstrap supply (BST), external capacitor to OUT_A required"
part B pins: 1 GND (power) "Power ground", 2 GND (power) "Power ground", 4 DVDD (power) "I/O reference supply input (3.3 V)", 5 GND (power) "Power ground", 6 DGND (power) "Digital I/O reference ground", 7 GND (power) "Power ground", 17 DREG_RTN (power) "Digital supply voltage regulator decoupling return pin", 27 GND (power) "Power ground", 28 GND (power) "Power ground", 29 GND (power) "Power ground", 30 GVDD (power) "Voltage supply to on-chip gate drive and digital supply voltage regulators", 32 PVDD_D (power) "Power supply input for half-bridge D", 33 PVDD_D (power) "Power supply input for half-bridge D", 36 GND (power) "Power ground", 37 GND (power) "Power ground", 40 PVDD_C (power) "Power supply input for half-bridge C", 41 PVDD_C (power) "Power supply input for half-bridge C", 44 PVDD_B (power) "Power supply input for half-bridge B", 45 PVDD_B (power) "Power supply input for half-bridge B", 48 GND (power) "Power ground", 49 GND (power) "Power ground", 52 PVDD_A (power) "Power supply input for half-bridge A", 53 PVDD_A (power) "Power supply input for half-bridge A", 55 GVDD (power) "Voltage supply to on-chip gate drive and digital supply voltage regulators", 56 GND (power) "Power ground", 57 EP

## TAS5112ADCAG4
designator U?
50 W Stereo Digital Amplifier Power Stage, 0 to 70 degC, 56-pin SOP (DCA56), Green (RoHS & no Sb/Br); Manufacturer: Texas Instruments; PartNumber: TAS5112ADCAG4; Analog Supply Max [V]: 30.5; Analog Supply Min [V]: 16; Digital Supply Min [V]: 3; Input Type: PWM; Max. Number of Speaker Outputs: 2; SubFamily: Mid/High-Power Amplifier; DatasheetVersion: SLES094B; PackageVersion: 4073259-3/E, 07/2011; PackageReference: DCA56-7700X3425TP; PackageDescription: 56-Pin Plastic Small Outline, Body 14 x 6.1 mm, Pitch 0.5 mm; Supplier 1: Digi-Key; Supplier Part Number 1: TAS5112ADCAG4-ND; Supplier 2: Mouser; Supplier Part Number 2: 595-TAS5112ADCAG4; Eco-Plan: Green (RoHS & no Sb/Br); Mounting Technology: Surface Mount; Code_JEDEC: MO-153; ComponentLink1Description: Manufacturer URL; ComponentLink1URL: http://www.ti.com/; ComponentLink2Description: Datasheet; ComponentLink2URL: http://www.ti.com/general/docs/lit/getliterature.tsp?genericPartNumber=TAS5112A&fileType=pdf; ComponentLink3Description: Package Specification; ComponentLink3URL: http://www.ti.com/litv/pdf/mpdi001b
footprint TI-DCA56-7700X3425TP_N (SOP, 56-Leads, Body 14x6.1mm, Pitch 0.5mm, Thermal Pad 8.2x3.9mm, IPC Medium Density)
footprint TI-DCA56-7700X3425TP_L (SOP, 56-Leads, Body 14x6.1mm, Pitch 0.5mm, Thermal Pad 8.2x3.9mm, IPC High Density)
footprint TI-DCA56-7700X3425TP_M (SOP, 56-Leads, Body 14x6.1mm, Pitch 0.5mm, Thermal Pad 8.2x3.9mm, IPC Low Density)
part A pins: 3 GREG "Gate drive voltage regulator decoupling pin, capacitor to REG_GND", 8 PWM_AP (in) "Input signal (positive), half-bridge A", 9 PWM_AM (in) "Input signal (negative), half-bridge A", 10 ~{RESET_AB} (in) "Reset signal, active low", 11 PWM_BM (in) "Input signal (negative), half-bridge B", 12 PWM_BP (in) "Input signal (positive), half-bridge B", 13 DREG "Digital supply voltage regulator decoupling pin, capacitor connected to GND", 14 M1 (TST0) (in) "Mode selection pin", 15 M2 (in) "Mode selection pin", 16 M3 (in) "Mode selection pin", 18 PWM_CP (in) "Input signal (positive), half-bridge C", 19 PWM_CM (in) "Input signal (negative), half-bridge C", 20 ~{RESET_CD} (in) "Reset signal, active low", 21 PWM_DM (in) "Input signal (negative), half-bridge D", 22 PWM_DP (in) "Input signal (positive), half-bridge D", 23 ~{SD_AB} (oc) "Shutdown signal for half-bridges A and B, active-low", 24 ~{SD_CD} (oc) "Shutdown signal for half-bridges C and D, active-low", 25 ~{OTW} (oc) "Overtemperature warning output, open drain with internal pullup resistor", 26 GREG "Gate drive voltage regulator decoupling pin, capacitor to REG_GND", 31 BST_D "HS bootstrap supply (BST), external capacitor to OUT_D required", 34 OUT_D (hiz) "Output, half-bridge D", 35 OUT_D (hiz) "Output, half-bridge D", 38 OUT_C (hiz) "Output, half-bridge C", 39 OUT_C (hiz) "Output, half-bridge C", 42 BST_C "HS bootstrap supply (BST), external capacitor to OUT_C required", 43 BST_B "High-side bootstrap supply (BST), external capacitor to OUT_B required", 46 OUT_B (hiz) "Output, half-bridge B", 47 OUT_B (hiz) "Output, half-bridge B", 50 OUT_A (hiz) "Output, half-bridge A", 51 OUT_A (hiz) "Output, half-bridge A", 54 BST_A "High-side bootstrap supply (BST), external capacitor to OUT_A required"
part B pins: 1 GND (power) "Power ground", 2 GND (power) "Power ground", 4 DVDD (power) "I/O reference supply input (3.3 V)", 5 GND (power) "Power ground", 6 DGND (power) "Digital I/O reference ground", 7 GND (power) "Power ground", 17 DREG_RTN (power) "Digital supply voltage regulator decoupling return pin", 27 GND (power) "Power ground", 28 GND (power) "Power ground", 29 GND (power) "Power ground", 30 GVDD (power) "Voltage supply to on-chip gate drive and digital supply voltage regulators", 32 PVDD_D (power) "Power supply input for half-bridge D", 33 PVDD_D (power) "Power supply input for half-bridge D", 36 GND (power) "Power ground", 37 GND (power) "Power ground", 40 PVDD_C (power) "Power supply input for half-bridge C", 41 PVDD_C (power) "Power supply input for half-bridge C", 44 PVDD_B (power) "Power supply input for half-bridge B", 45 PVDD_B (power) "Power supply input for half-bridge B", 48 GND (power) "Power ground", 49 GND (power) "Power ground", 52 PVDD_A (power) "Power supply input for half-bridge A", 53 PVDD_A (power) "Power supply input for half-bridge A", 55 GVDD (power) "Voltage supply to on-chip gate drive and digital supply voltage regulators", 56 GND (power) "Power ground", 57 EP

## TAS5121DKD
designator U?
100 W Mono Digital Amplifier Power Stage, 0 to 70 degC, 36-pin SOP (DKD36); Manufacturer: Texas Instruments; PartNumber: TAS5121DKD; Analog Supply Max [V]: 13.2; Analog Supply Min [V]: 10.8; Digital Supply Min [V]: 3; Input Type: PWM; Max. Number of Speaker Outputs: 1; SubFamily: Mid/High-Power Amplifier; DatasheetVersion: SLES086A; PackageVersion: 4204421-2/K, 06/2012; PackageReference: DKD36; PackageDescription: 36-Pin Plastic Small Outline, Body 15.9 x 11 mm, Pitch 0.65 mm; Supplier 1: Digi-Key; Supplier Part Number 1: 296-16644-5-ND; Supplier 2: Newark; Supplier Part Number 2: 90H4508; Supplier 3: Mouser; Supplier Part Number 3: 595-TAS5121DKD; Mounting Technology: Surface Mount; ComponentLink1Description: Manufacturer URL; ComponentLink1URL: http://www.ti.com/; ComponentLink2Description: Datasheet; ComponentLink2URL: http://www.ti.com/general/docs/lit/getliterature.tsp?genericPartNumber=TAS5121&fileType=pdf; ComponentLink3Description: Package Specification; ComponentLink3URL: http://www.ti.com/lit/ds/symlink/tas5121i.pdf
footprint TI-DKD36_N (SOP, 36-Leads, Body 16x11.1mm, Pitch 0.65mm, IPC Medium Density)
footprint TI-DKD36_L (SOP, 36-Leads, Body 16x11.1mm, Pitch 0.65mm, IPC High Density)
footprint TI-DKD36_M (SOP, 36-Leads, Body 16x11.1mm, Pitch 0.65mm, IPC Low Density)
part A pins: 2 PWM_BP (in) "PWM input signal, half-bridge B", 4 ~{RESET} (in) "Reset signal, active-low", 5 DREG_RTN "Decoupling return pin", 7 M3 (in) "Output-mode selection pin; connect to GND", 10 M1 (in) "Protection-mode selection pin, connect to GND", 11 M2 (in) "Protection-mode selection pin, connect to DREG", 13 ~{SD} (oc) "Shutdown signal for half-bridges A and B (open-drain with internal pullup)", 15 ~{OTW} (hiz) "Overtemperature warning output, open drain with internal pullup resistor, active-low when temperature exceeds 115 degC", 17 PWM_AP (in) "PWM input signal, half-bridge A", 22 BST_A "High-side bootstrap (BST) supply, external resistor and capacitor to OUT_A required", 25 OUT_A (hiz) "Output, half-bridge A", 26 OUT_A (hiz) "Output, half-bridge A", 29 OUT_B (hiz) "Output, half-bridge B", 30 OUT_B (hiz) "Output, half-bridge B", 33 BST_B "High-side bootstrap (BST) supply, external resistor and capacitor to OUT_B required"
part B pins: 1 GND (power) "Power ground, connected to system GND", 3 GND (power) "Power ground, connected to system GND", 6 GVDD (power) "Local GVDD decoupling pin", 8 DREG (power) "Digital supply-voltage regulator-decoupling pin, 1-uF capacitor connected to DREG_RTN", 9 DGND (power) "I/O reference ground", 12 DVDD (power) "I/O reference supply input: 100 ohm to DREG, decoupled to GND, 0.1-uF capacitor connected to GND", 14 DGND (power) "I/O reference ground", 16 GND (power) "Power ground, connected to system GND", 18 GND (power) "Power ground, connected to system GND", 19 GVDD_A (power) "Gate-drive input voltage", 20 GVDD_A (power) "Gate-drive input voltage", 21 GND (power) "Power ground, connected to system GND", 23 PVDD_A (power) "Power supply input for half-bridge A", 24 PVDD_A (power) "Power supply input for half-bridge A", 27 GND (power) "Power ground, connected to system GND", 28 GND (power) "Power ground, connected to system GND", 31 PVDD_B (power) "Power supply input for half-bridge B", 32 PVDD_B (power) "Power supply input for half-bridge B", 34 GND (power) "Power ground, connected to system GND", 35 GVDD_B (power) "Gate-drive input voltage", 36 GVDD_B (power) "Gate-drive input voltage"

## TAS5121DKDE4
designator U?
100 W Mono Digital Amplifier Power Stage, 0 to 70 degC, 36-pin SOP (DKD36); Manufacturer: Texas Instruments; PartNumber: TAS5121DKDE4; Analog Supply Max [V]: 13.2; Analog Supply Min [V]: 10.8; Digital Supply Min [V]: 3; Input Type: PWM; Max. Number of Speaker Outputs: 1; SubFamily: Mid/High-Power Amplifier; DatasheetVersion: SLES086A; PackageVersion: 4204421-2/K, 06/2012; PackageReference: DKD36; PackageDescription: 36-Pin Plastic Small Outline, Body 15.9 x 11 mm, Pitch 0.65 mm; Supplier 1: Digi-Key; Supplier Part Number 1: TAS5121DKDE4-ND; Supplier 2: Mouser; Supplier Part Number 2: 595-TAS5121DKDE4; Mounting Technology: Surface Mount; ComponentLink1Description: Manufacturer URL; ComponentLink1URL: http://www.ti.com/; ComponentLink2Description: Datasheet; ComponentLink2URL: http://www.ti.com/general/docs/lit/getliterature.tsp?genericPartNumber=TAS5121&fileType=pdf; ComponentLink3Description: Package Specification; ComponentLink3URL: http://www.ti.com/lit/ds/symlink/tas5121i.pdf
footprint TI-DKD36_N (SOP, 36-Leads, Body 16x11.1mm, Pitch 0.65mm, IPC Medium Density)
footprint TI-DKD36_L (SOP, 36-Leads, Body 16x11.1mm, Pitch 0.65mm, IPC High Density)
footprint TI-DKD36_M (SOP, 36-Leads, Body 16x11.1mm, Pitch 0.65mm, IPC Low Density)
part A pins: 2 PWM_BP (in) "PWM input signal, half-bridge B", 4 ~{RESET} (in) "Reset signal, active-low", 5 DREG_RTN "Decoupling return pin", 7 M3 (in) "Output-mode selection pin; connect to GND", 10 M1 (in) "Protection-mode selection pin, connect to GND", 11 M2 (in) "Protection-mode selection pin, connect to DREG", 13 ~{SD} (oc) "Shutdown signal for half-bridges A and B (open-drain with internal pullup)", 15 ~{OTW} (hiz) "Overtemperature warning output, open drain with internal pullup resistor, active-low when temperature exceeds 115 degC", 17 PWM_AP (in) "PWM input signal, half-bridge A", 22 BST_A "High-side bootstrap (BST) supply, external resistor and capacitor to OUT_A required", 25 OUT_A (hiz) "Output, half-bridge A", 26 OUT_A (hiz) "Output, half-bridge A", 29 OUT_B (hiz) "Output, half-bridge B", 30 OUT_B (hiz) "Output, half-bridge B", 33 BST_B "High-side bootstrap (BST) supply, external resistor and capacitor to OUT_B required"
part B pins: 1 GND (power) "Power ground, connected to system GND", 3 GND (power) "Power ground, connected to system GND", 6 GVDD (power) "Local GVDD decoupling pin", 8 DREG (power) "Digital supply-voltage regulator-decoupling pin, 1-uF capacitor connected to DREG_RTN", 9 DGND (power) "I/O reference ground", 12 DVDD (power) "I/O reference supply input: 100 ohm to DREG, decoupled to GND, 0.1-uF capacitor connected to GND", 14 DGND (power) "I/O reference ground", 16 GND (power) "Power ground, connected to system GND", 18 GND (power) "Power ground, connected to system GND", 19 GVDD_A (power) "Gate-drive input voltage", 20 GVDD_A (power) "Gate-drive input voltage", 21 GND (power) "Power ground, connected to system GND", 23 PVDD_A (power) "Power supply input for half-bridge A", 24 PVDD_A (power) "Power supply input for half-bridge A", 27 GND (power) "Power ground, connected to system GND", 28 GND (power) "Power ground, connected to system GND", 31 PVDD_B (power) "Power supply input for half-bridge B", 32 PVDD_B (power) "Power supply input for half-bridge B", 34 GND (power) "Power ground, connected to system GND", 35 GVDD_B (power) "Gate-drive input voltage", 36 GVDD_B (power) "Gate-drive input voltage"

## TAS5121DKDR
designator U?
100 W Mono Digital Amplifier Power Stage, 0 to 70 degC, 36-pin SOP (DKD36); Manufacturer: Texas Instruments; PartNumber: TAS5121DKDR; Analog Supply Max [V]: 13.2; Analog Supply Min [V]: 10.8; Digital Supply Min [V]: 3; Input Type: PWM; Max. Number of Speaker Outputs: 1; SubFamily: Mid/High-Power Amplifier; DatasheetVersion: SLES086A; PackageVersion: 4204421-2/K, 06/2012; PackageReference: DKD36; PackageDescription: 36-Pin Plastic Small Outline, Body 15.9 x 11 mm, Pitch 0.65 mm; Supplier 1: Digi-Key; Supplier Part Number 1: TAS5121DKDR-ND; Supplier 2: Newark; Supplier Part Number 2: 90H4509; Supplier 3: Mouser; Supplier Part Number 3: 595-TAS5121DKDR; Mounting Technology: Surface Mount; ComponentLink1Description: Manufacturer URL; ComponentLink1URL: http://www.ti.com/; ComponentLink2Description: Datasheet; ComponentLink2URL: http://www.ti.com/general/docs/lit/getliterature.tsp?genericPartNumber=TAS5121&fileType=pdf; ComponentLink3Description: Package Specification; ComponentLink3URL: http://www.ti.com/lit/ds/symlink/tas5121i.pdf
footprint TI-DKD36_N (SOP, 36-Leads, Body 16x11.1mm, Pitch 0.65mm, IPC Medium Density)
footprint TI-DKD36_L (SOP, 36-Leads, Body 16x11.1mm, Pitch 0.65mm, IPC High Density)
footprint TI-DKD36_M (SOP, 36-Leads, Body 16x11.1mm, Pitch 0.65mm, IPC Low Density)
part A pins: 2 PWM_BP (in) "PWM input signal, half-bridge B", 4 ~{RESET} (in) "Reset signal, active-low", 5 DREG_RTN "Decoupling return pin", 7 M3 (in) "Output-mode selection pin; connect to GND", 10 M1 (in) "Protection-mode selection pin, connect to GND", 11 M2 (in) "Protection-mode selection pin, connect to DREG", 13 ~{SD} (oc) "Shutdown signal for half-bridges A and B (open-drain with internal pullup)", 15 ~{OTW} (hiz) "Overtemperature warning output, open drain with internal pullup resistor, active-low when temperature exceeds 115 degC", 17 PWM_AP (in) "PWM input signal, half-bridge A", 22 BST_A "High-side bootstrap (BST) supply, external resistor and capacitor to OUT_A required", 25 OUT_A (hiz) "Output, half-bridge A", 26 OUT_A (hiz) "Output, half-bridge A", 29 OUT_B (hiz) "Output, half-bridge B", 30 OUT_B (hiz) "Output, half-bridge B", 33 BST_B "High-side bootstrap (BST) supply, external resistor and capacitor to OUT_B required"
part B pins: 1 GND (power) "Power ground, connected to system GND", 3 GND (power) "Power ground, connected to system GND", 6 GVDD (power) "Local GVDD decoupling pin", 8 DREG (power) "Digital supply-voltage regulator-decoupling pin, 1-uF capacitor connected to DREG_RTN", 9 DGND (power) "I/O reference ground", 12 DVDD (power) "I/O reference supply input: 100 ohm to DREG, decoupled to GND, 0.1-uF capacitor connected to GND", 14 DGND (power) "I/O reference ground", 16 GND (power) "Power ground, connected to system GND", 18 GND (power) "Power ground, connected to system GND", 19 GVDD_A (power) "Gate-drive input voltage", 20 GVDD_A (power) "Gate-drive input voltage", 21 GND (power) "Power ground, connected to system GND", 23 PVDD_A (power) "Power supply input for half-bridge A", 24 PVDD_A (power) "Power supply input for half-bridge A", 27 GND (power) "Power ground, connected to system GND", 28 GND (power) "Power ground, connected to system GND", 31 PVDD_B (power) "Power supply input for half-bridge B", 32 PVDD_B (power) "Power supply input for half-bridge B", 34 GND (power) "Power ground, connected to system GND", 35 GVDD_B (power) "Gate-drive input voltage", 36 GVDD_B (power) "Gate-drive input voltage"